# EAGLE library part RESISTOR-ARRAY-GATES (library eagle-library-engr-245-s22)
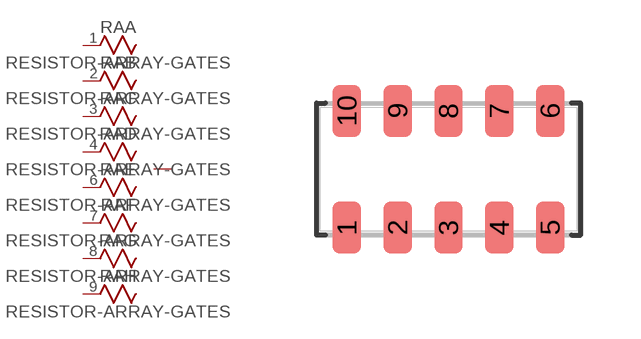
[diagram p3: symbol with the pads of RESCAV10P127_640X310X70L50X60N; footprint RESCAV10P127_640X310X70L50X60N]

Designator prefix RA; gates A=RESISTOR-SINGLE-GATE B=RESISTOR-SINGLE-GATE C=RESISTOR-SINGLE-GATE D=RESISTOR-SINGLE-GATE E=RESISTOR-SINGLE-GATE F=RESISTOR-SINGLE-GATE G=RESISTOR-SINGLE-GATE H=RESISTOR-SINGLE-GATE G$9=RESISTOR-SINGLE-OTHER-SIDE

## RESISTOR-ARRAY-GATES  [RESCAV10P127_640X310X70L50X60N]
1  A:1
2  B:1
3  C:1
4  D:1
5  G$9:1
6  E:1
7  F:1
8  G:1
9  H:1
10  G$9:1

## Footprint RESCAV10P127_640X310X70L50X60N (pad centres in mm)
Chip Array, 2 Side Concave, 1.27 mm pitch; 10 pin, 6.40 mm L X 3.10 mm W X 0.70 mm H body PCB Libraries Packages
smd 0.71 x 1.3: 1 -2.54,-1.46; 2 -1.27,-1.46; 3 0,-1.46; 4 1.27,-1.46; 5 2.54,-1.46; 6 2.54,1.46; 7 1.27,1.46; 8 0,1.46; 9 -1.27,1.46; 10 -2.54,1.46